# EAGLE library part WE-UNIT_74911821X (library Wurth_Elektronik_Passive_rev16a)
WE-UNIT Off-Line Transformer Characteristics Nominal input voltage: 125–375 VDC (85–265 VAC) Output power 3 W and 9 W Operating temperature: –40 °C to +125 °C Clearance and creepage distance 6 mm min. Insulation test voltage: 4 kVAC, 1 Minute Design compliant to EN 61558-2-16: reinforced insulation; except 749 118 10 xx: Basic insulation Applications Designed for Tiny Switch ICs from Power Integration and NCP101x or 105x of ON Semiconductor For SMPS with universal input from 85 VAC up to 265 VAC <http://katalog.we-online.de/media/images/eisos/UtUNIT_MID_pf2.jpg> Details see: http://katalog.we-online.de/en/pbs/WE-UNIT?m Updated by Dan Xu 2014-07-11 2014 (C) Wurth Elektronik
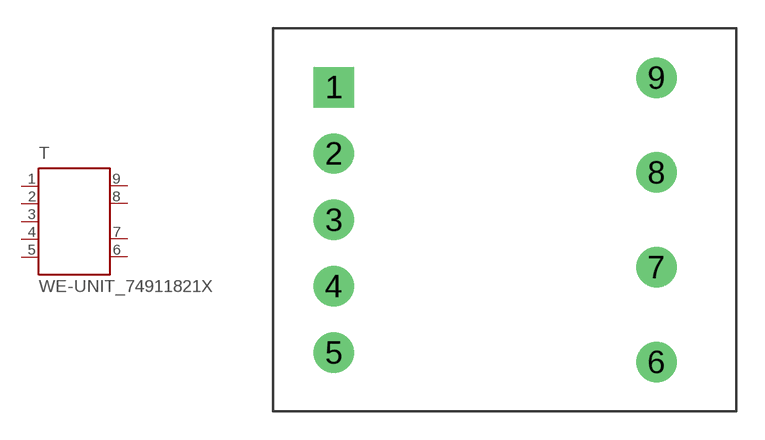
[diagram p52: symbol with the pads of WE_E16/8/5_THT_HORIZONTAL_9PIN; footprint WE_E16/8/5_THT_HORIZONTAL_9PIN]

Designator prefix T

## WE-UNIT_74911821X  [WE_E16/8/5_THT_HORIZONTAL_9PIN]
1  5  pas
2  4  pas
3  3  pas
4  2  pas
5  1  pas
6  9  pas
7  8  pas
8  7  pas
9  6  pas

## Footprint WE_E16/8/5_THT_HORIZONTAL_9PIN (pad centres in mm)
Transformer, E16/8/5 THT Horizontal 9 Pin
drill 1.42 square: 1 -8.5,7
drill 1.42: 2 -8.5,3.5; 3 -8.5,0; 4 -8.5,-3.5; 5 -8.5,-7; 6 8.5,-7.5; 7 8.5,-2.5; 8 8.5,2.5; 9 8.5,7.5